# EAGLE library part BQ24090 (library Pygmy)
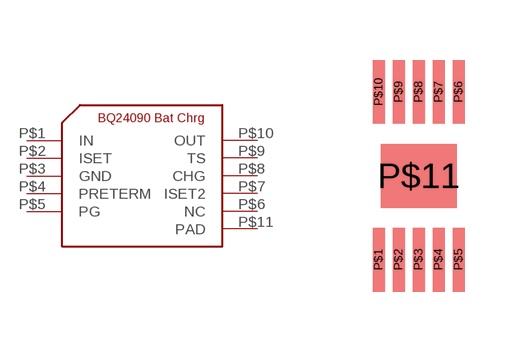
[diagram p9: symbol with the pads of R-PDSO-G10; footprint R-PDSO-G10]

Designator prefix -

## BQ24090  [R-PDSO-G10]
P$1  IN
P$2  ISET
P$3  GND
P$4  PRETERM
P$5  PG
P$6  NC
P$7  ISET2
P$8  CHG
P$9  TS
P$10  OUT
P$11  PAD

## Footprint R-PDSO-G10 (pad centres in mm)
smd 0.3 x 1.6: P$1 0,0; P$2 0.5,0; P$3 1,0; P$4 1.5,0; P$5 2,0; P$6 2,4.2; P$7 1.5,4.2; P$8 1,4.2; P$9 0.5,4.2; P$10 0,4.2
smd 1.9 x 1.6: P$11 1,2.1